# EAGLE library part CY*CKIT-059 (library NicksParts)
PSoC 5 LP Dev board
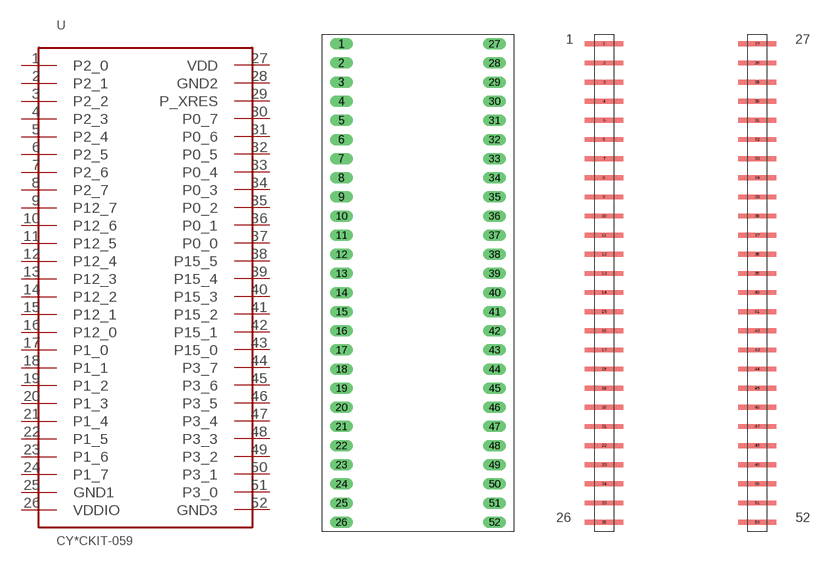
[diagram p12: symbol with the pads of CY8CKIT-059; footprints CY8CKIT-059, CY8CKIT-059SM]

Designator prefix U

## CYCKIT-059TH, CYTHCKIT-059TH  [CY8CKIT-059]
1  P2_0
2  P2_1
3  P2_2
4  P2_3
5  P2_4
6  P2_5
7  P2_6
8  P2_7
9  P12_7
10  P12_6
11  P12_5
12  P12_4
13  P12_3
14  P12_2
15  P12_1
16  P12_0
17  P1_0
18  P1_1
19  P1_2
20  P1_3
21  P1_4
22  P1_5
23  P1_6
24  P1_7
25  GND1  pwr
26  VDDIO  pwr
27  VDD  pwr
28  GND2  pwr
29  P_XRES
30  P0_7
31  P0_6
32  P0_5
33  P0_4
34  P0_3
35  P0_2
36  P0_1
37  P0_0
38  P15_5
39  P15_4
40  P15_3
41  P15_2
42  P15_1
43  P15_0
44  P3_7
45  P3_6
46  P3_5
47  P3_4
48  P3_3
49  P3_2
50  P3_1
51  P3_0
52  GND3

## CYCKIT-059SMT  [CY8CKIT-059SM]
Pads as for CY8CKIT-059

## Footprint CY8CKIT-059 (pad centres in mm)
drill 1.016 long: 1 -10.16,30.48; 2 -10.16,27.94; 3 -10.16,25.4; 4 -10.16,22.86; 5 -10.16,20.32; 6 -10.16,17.78; 7 -10.16,15.24; 8 -10.16,12.7; 9 -10.16,10.16; 10 -10.16,7.62; 11 -10.16,5.08; 12 -10.16,2.54; 13 -10.16,0; 14 -10.16,-2.54; 15 -10.16,-5.08; 16 -10.16,-7.62; 17 -10.16,-10.16; 18 -10.16,-12.7; 19 -10.16,-15.24; 20 -10.16,-17.78; 21 -10.16,-20.32; 22 -10.16,-22.86; 23 -10.16,-25.4; 24 -10.16,-27.94; 25 -10.16,-30.48; 26 -10.16,-33.02; 27 10.16,30.48; 28 10.16,27.94; 29 10.16,25.4; 30 10.16,22.86; 31 10.16,20.32; 32 10.16,17.78; 33 10.16,15.24; 34 10.16,12.7; 35 10.16,10.16; 36 10.16,7.62; 37 10.16,5.08; 38 10.16,2.54; 39 10.16,0; 40 10.16,-2.54; 41 10.16,-5.08; 42 10.16,-7.62; 43 10.16,-10.16; 44 10.16,-12.7; 45 10.16,-15.24; 46 10.16,-17.78; 47 10.16,-20.32; 48 10.16,-22.86; 49 10.16,-25.4; 50 10.16,-27.94; 51 10.16,-30.48; 52 10.16,-33.02

## Footprint CY8CKIT-059SM (pad centres in mm)
smd 5.08 x 0.635: 1 -10.16,30.48; 2 -10.16,27.94; 3 -10.16,25.4; 4 -10.16,22.86; 5 -10.16,20.32; 6 -10.16,17.78; 7 -10.16,15.24; 8 -10.16,12.7; 9 -10.16,10.16; 10 -10.16,7.62; 11 -10.16,5.08; 12 -10.16,2.54; 13 -10.16,0; 14 -10.16,-2.54; 15 -10.16,-5.08; 16 -10.16,-7.62; 17 -10.16,-10.16; 18 -10.16,-12.7; 19 -10.16,-15.24; 20 -10.16,-17.78; 21 -10.16,-20.32; 22 -10.16,-22.86; 23 -10.16,-25.4; 24 -10.16,-27.94; 25 -10.16,-30.48; 26 -10.16,-33.02; 27 10.16,30.48; 28 10.16,27.94; 29 10.16,25.4; 30 10.16,22.86; 31 10.16,20.32; 32 10.16,17.78; 33 10.16,15.24; 34 10.16,12.7; 35 10.16,10.16; 36 10.16,7.62; 37 10.16,5.08; 38 10.16,2.54; 39 10.16,0; 40 10.16,-2.54; 41 10.16,-5.08; 42 10.16,-7.62; 43 10.16,-10.16; 44 10.16,-12.7; 45 10.16,-15.24; 46 10.16,-17.78; 47 10.16,-20.32; 48 10.16,-22.86; 49 10.16,-25.4; 50 10.16,-27.94; 51 10.16,-30.48; 52 10.16,-33.02